# Altium schematic symbol library S2B-PH-SM4-TB_LF__SN_.SchLib: 2 symbols
Pins are listed as number, name and electrical type; pins without a type are passive.

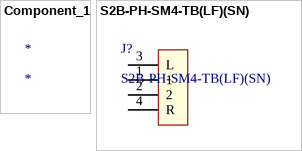
[diagram p0: symbols Component_1 to S2B-PH-SM4-TB(LF)(SN)]

## Component_1
designator *

## S2B-PH-SM4-TB(LF)(SN)
designator J?
No Description Available; Mfr_Name: JST; Copyright: Copyright (C) 2023 Ultra Librarian. All rights reserved.; Manufacturer_Part_Number: S2B-PH-SM4-TB(LF)(SN); RefDes: RefDes; Type: DEV
footprint CONN_S2B-PH-SM4-TB_JST
pins: 1, 2, 3 L, 4 R